# Altium footprint library SnapEDApcb.PcbLib: 1 footprints
Each footprint in its own frame and in the unit in brackets; x right, y up, seen from the top. Pads: shape width x height; smd on the part's side, far side on the other; paste and mask are expansions set on the pad; w line width, h text height; cw(c..) or ccw(c..) is an arc to the next point about the centre after c.
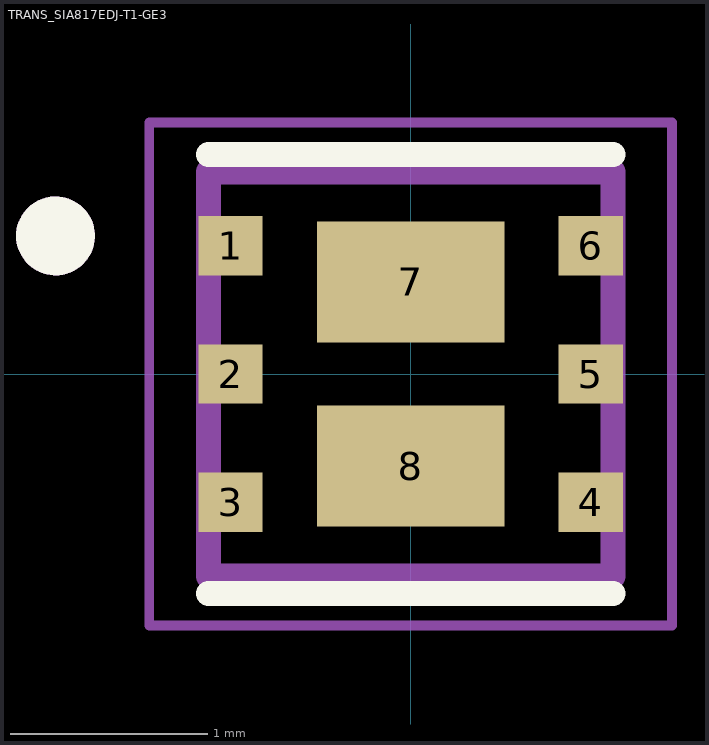
[diagram p0: the footprint, top view; thin cyan lines are the x and y axes]

## TRANS_SIA817EDJ-T1-GE3 [mm]
pads (8):
  rect 0.325x0.3 smd: 1(-0.913,0.65) 2(-0.913,0) 3(-0.913,-0.65) 4(0.913,-0.65) 5(0.913,0) 6(0.913,0.65)
  rect 0.95x0.613 smd paste-1: 7(0,0.466) 8(0,-0.466)
Top Overlay:
  circle w0.2: c-1.8,0.7 r0.1
  lines w0.127: -1.025,-1.114 1.025,-1.114 ; -1.025,1.114 1.025,1.114
Top Paste:
  region: 0.3,0.266 -0.3,0.266 -0.3,0.667 0.3,0.667
  region: 0.3,-0.667 -0.3,-0.667 -0.3,-0.266 0.3,-0.266
Mechanical 13:
  circle w0.2: c-1.8,0.7 r0.1
  lines w0.127: -1.025,-1.025 1.025,-1.025 1.025,1.025 -1.025,1.025 -1.025,-1.025
Mechanical 15:
  lines w0.05: -1.325,-1.275 1.325,-1.275 1.325,1.275 -1.325,1.275 -1.325,-1.275